# Altium footprint library LTC6994CS6.PcbLib: 3 footprints
Each footprint in its own frame and in the unit in brackets; x right, y up, seen from the top. Pads: shape width x height; smd on the part's side, far side on the other; paste and mask are expansions set on the pad; w line width, h text height; cw(c..) or ccw(c..) is an arc to the next point about the centre after c.
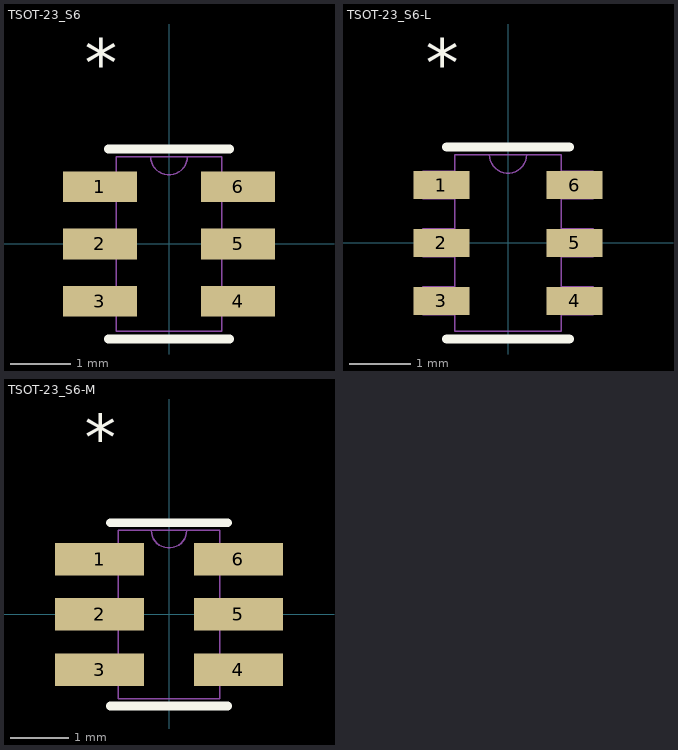
[diagram p0: the footprints below, top view; thin cyan lines are the x and y axes]

## TSOT-23_S6 [mil]
pads (6):
  rect 48x20 smd: 1(-45,37.4) 2(-45,0) 3(-45,-37.4) 4(45,-37.4) 5(45,0) 6(45,37.4)
Top Overlay:
  lines w6: -39.5,-62 39.5,-62 ; -39.5,62 39.5,62
  text "*" at -55,102.4 h31.25
Mechanical 1:
  lines w1: -12,57 ccw(c0,57) 12,57 ; -55,-46.4 -55,-28.4 -34.5,-28.4 -34.5,-46.4 -55,-46.4 ; -55,-9 -55,9 -34.5,9 -34.5,-9 -55,-9 ; -55,28.4 -55,46.4 -34.5,46.4 -34.5,28.4 -55,28.4 ; -34.5,-57 34.5,-57 34.5,57 -34.5,57 -34.5,-57 ; 34.5,-46.4 34.5,-28.4 55,-28.4 55,-46.4 34.5,-46.4 ; 34.5,-9 34.5,9 55,9 55,-9 34.5,-9 ; 34.5,28.4 34.5,46.4 55,46.4 55,28.4 34.5,28.4
  text "*" at -19.5,54 h31.25

## TSOT-23_S6-L [mil]
pads (6):
  rect 36x18 smd: 1(-43,37.4) 2(-43,0) 3(-43,-37.4) 4(43,-37.4) 5(43,0) 6(43,37.4)
Top Overlay:
  lines w6: -39.5,-62 39.5,-62 ; -39.5,62 39.5,62
  text "*" at -53,100.4 h31.25
Mechanical 1:
  lines w1: -12,57 ccw(c0,57) 12,57 ; -55,-46.4 -55,-28.4 -34.5,-28.4 -34.5,-46.4 -55,-46.4 ; -55,-9 -55,9 -34.5,9 -34.5,-9 -55,-9 ; -55,28.4 -55,46.4 -34.5,46.4 -34.5,28.4 -55,28.4 ; -34.5,-57 34.5,-57 34.5,57 -34.5,57 -34.5,-57 ; 34.5,-46.4 34.5,-28.4 55,-28.4 55,-46.4 34.5,-46.4 ; 34.5,-9 34.5,9 55,9 55,-9 34.5,-9 ; 34.5,28.4 34.5,46.4 55,46.4 55,28.4 34.5,28.4
  text "*" at -19.5,54 h31.25

## TSOT-23_S6-M [mil]
pads (6):
  rect 60x22 smd: 1(-47,37.4) 2(-47,0) 3(-47,-37.4) 4(47,-37.4) 5(47,0) 6(47,37.4)
Top Overlay:
  lines w6: -39.5,-62 39.5,-62 ; -39.5,62 39.5,62
  text "*" at -57,104.4 h31.25
Mechanical 1:
  lines w1: -12,57 ccw(c0,57) 12,57 ; -55,-46.4 -55,-28.4 -34.5,-28.4 -34.5,-46.4 -55,-46.4 ; -55,-9 -55,9 -34.5,9 -34.5,-9 -55,-9 ; -55,28.4 -55,46.4 -34.5,46.4 -34.5,28.4 -55,28.4 ; -34.5,-57 34.5,-57 34.5,57 -34.5,57 -34.5,-57 ; 34.5,-46.4 34.5,-28.4 55,-28.4 55,-46.4 34.5,-46.4 ; 34.5,-9 34.5,9 55,9 55,-9 34.5,-9 ; 34.5,28.4 34.5,46.4 55,46.4 55,28.4 34.5,28.4
  text "*" at -19.5,54 h31.25